# Altium footprint library NGG006A_footprint.PcbLib: 1 footprints
Each footprint in its own frame and in the unit in brackets; x right, y up, seen from the top. Pads: shape width x height; smd on the part's side, far side on the other; paste and mask are expansions set on the pad; w line width, h text height; cw(c..) or ccw(c..) is an arc to the next point about the centre after c.
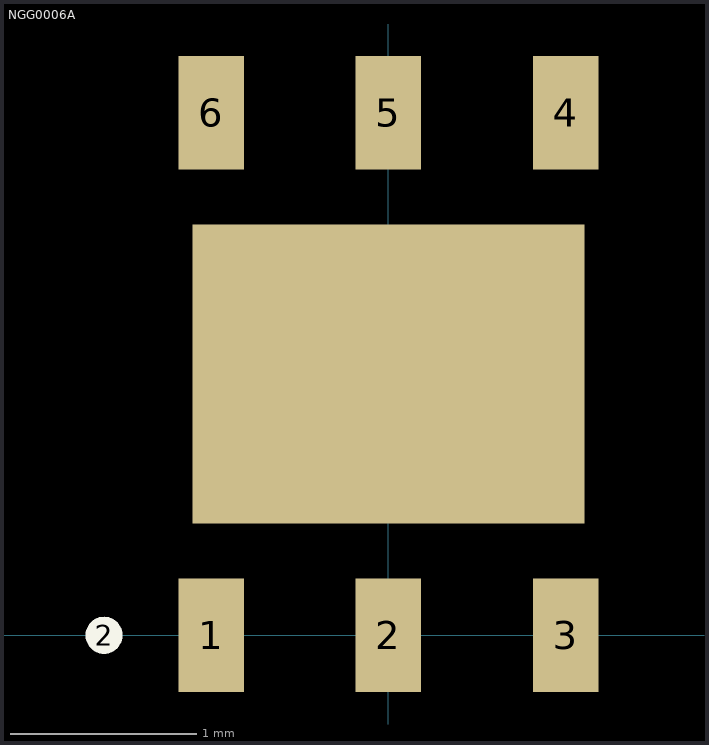
[diagram p0: the footprint, top view; thin cyan lines are the x and y axes]

## NGG0006A [mm]
pads (8):
  rect 0.351x0.61 smd: 1(-0.95,0) 2(0,0) 3(0.95,0) 4(0.95,2.8) 5(0,2.8) 6(-0.95,2.8)
  round 0.2 on Top Overlay: 2(-1.524,0)
  rect 2.1x1.6 smd: ""(0,1.4)